# Altium integrated library PHT-117-X-X-S-007.IntLib: 1 symbol
Pins are listed as number, name and electrical type; pins without a type are passive.

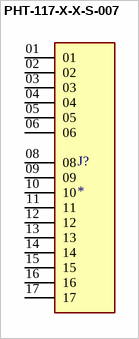
[diagram p0: symbol PHT-117-X-X-S-007]

## PHT-117-X-X-S-007
designator J?
Connector Header Through Hole 17 position 0.100 (2.54mm); MF: Samtec; MP: PHT-117-01-L-S-007; Value: *; Package: None; Purchase-URL: https://pricing.snapeda.com/search/part/PHT-117-01-L-S-007/?ref=eda; Price: None; SnapEDA_Link: https://www.snapeda.com/parts/PHT-117-01-L-S-007/Samtec/view-part/3482443/?ref=snap; Check_prices: https://www.snapeda.com/parts/PHT-117-01-L-S-007/Samtec/view-part/3482443/?ref=eda; Availability: Bad
footprint SAMTEC_PHT-117-X-X-S-007
pins: 01, 02, 03, 04, 05, 06, 08, 09, 10, 11, 12, 13, 14, 15, 16, 17